# Altium footprint library morse_code_watch.PcbLib: 4 footprints
Each footprint in its own frame and in the unit in brackets; x right, y up, seen from the top. Pads: shape width x height; smd on the part's side, far side on the other; paste and mask are expansions set on the pad; w line width, h text height; cw(c..) or ccw(c..) is an arc to the next point about the centre after c.
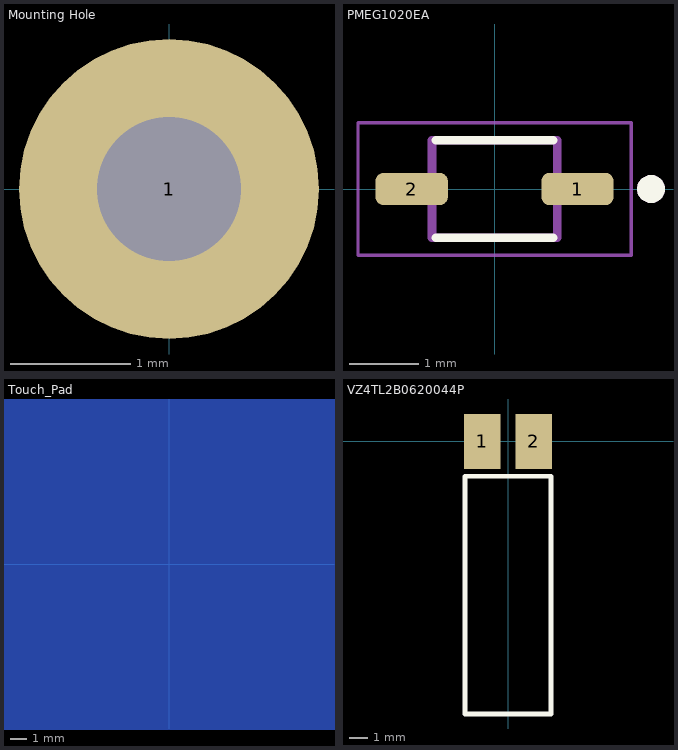
[diagram p0: the footprints below, top view; thin cyan lines are the x and y axes]

## Mounting Hole [mm]
pads (1):
  round 2.5 hole 1.2: 1(0,0)

## PMEG1020EA [mm]
pads (2):
  rrect50% 1.04x0.46 smd: 1(1.19,0) 2(-1.19,0)
Top Overlay:
  circle w0.2: c2.245,0 r0.1
  lines w0.127: -0.84,-0.7 0.84,-0.7 ; -0.84,0.7 0.84,0.7
Mechanical 13:
  circle w0.2: c2.245,0 r0.1
  lines w0.127: -0.9,-0.7 0.9,-0.7 0.9,0.7 -0.9,0.7 -0.9,-0.7
Mechanical 15:
  lines w0.05: -1.96,-0.95 1.96,-0.95 1.96,0.95 -1.96,0.95 -1.96,-0.95
3D body "PMEG1020EA.STEP": height 1.15, standoff 0, extent -1.338,-0.65 1.338,0.65

## Touch_Pad [mm]
Bottom Layer:
  circle w18.8: c0,0 r9.4

## VZ4TL2B0620044P [mm]
pads (2):
  rect 2x3 smd: 1(-1.4,0) 2(1.4,0)
Top Overlay:
  lines w0.254: -2.35,-14.9 2.35,-14.9 2.35,-1.9 -2.35,-1.9 -2.35,-14.9